# Altium schematic symbol library STM32MP135DAG7.SchLib: 1 symbol
Pins are listed as number, name and electrical type; pins without a type are passive.

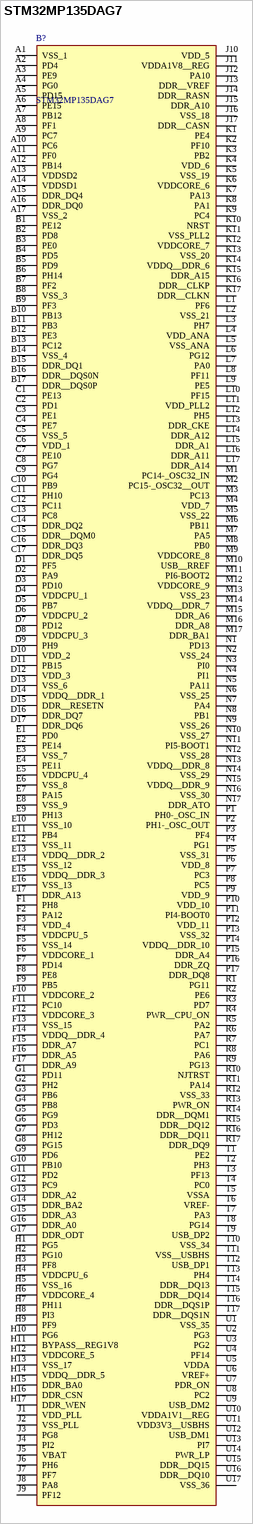
[diagram p0: symbol STM32MP135DAG7]

## STM32MP135DAG7
designator B?
32-bit Arm Cortex-A7 1GHz MPU for Graphics; Manufacturer_Name: STMicroelectronics; Geometry.Height: 1.41mm; Manufacturer_Part_Number: STM32MP135DAG7; Mouser Part Number: *; Mouser Price/Stock: *; Arrow Part Number: *; Arrow Price/Stock: *; Datasheet Link: https://www.st.com/resource/en/datasheet/stm32mp135a.pdf
footprint BGA289C50P17X17_900X900X141
pins: A1 VSS_1, A2 PD4, A3 PE9, A4 PG0, A5 PD15, A6 PE15, A7 PB12, A8 PF1, A9 PC7, A10 PC6, A11 PF0, A12 PB14, A13 VDDSD2, A14 VDDSD1, A15 DDR_DQ4, A16 DDR_DQ0, A17 VSS_2, B1 PE12, B2 PD8, B3 PE0, B4 PD5, B5 PD9, B6 PH14, B7 PF2, B8 VSS_3, B9 PF3, B10 PB13, B11 PB3, B12 PE3, B13 PC12, B14 VSS_4, B15 DDR_DQ1, B16 DDR__DQS0N, B17 DDR__DQS0P, C1 PE13, C2 PD1, C3 PE1, C4 PE7, C5 VSS_5, C6 VDD_1, C7 PE10, C8 PG7, C9 PG4, C10 PB9, C11 PH10, C12 PC11, C13 PC8, C14 DDR_DQ2, C15 DDR__DQM0, C16 DDR_DQ3, C17 DDR_DQ5, D1 PF5, D2 PA9, D3 PD10, D4 VDDCPU_1, D5 PB7, D6 VDDCPU_2, D7 PD12, D8 VDDCPU_3, D9 PH9, D10 VDD_2, D11 PB15, D12 VDD_3, D13 VSS_6, D14 VDDQ__DDR_1, D15 DDR__RESETN, D16 DDR_DQ7, D17 DDR_DQ6, E1 PD0, E2 PE14, E3 VSS_7, E4 PE11, E5 VDDCPU_4, E6 VSS_8, E7 PA15, E8 VSS_9, E9 PH13, E10 VSS_10, E11 PB4, E12 VSS_11, E13 VDDQ__DDR_2, E14 VSS_12, E15 VDDQ__DDR_3, E16 VSS_13, E17 DDR_A13, F1 PH8, F2 PA12, F3 VDD_4, F4 VDDCPU_5, F5 VSS_14, F6 VDDCORE_1, F7 PD14, F8 PE8, F9 PB5, F10 VDDCORE_2, F11 PC10, F12 VDDCORE_3, F13 VSS_15, F14 VDDQ__DDR_4, F15 DDR_A7, F16 DDR_A5, F17 DDR_A9, G1 PD11, G2 PH2, G3 PB6, G4 PB8, G5 PG9, G6 PD3, G7 PH12, G8 PG15, G9 PD6, G10 PB10, G11 PD2, G12 PC9, G13 DDR_A2, G14 DDR_BA2, G15 DDR_A3, G16 DDR_A0, G17 DDR_ODT, H1 PG5, H2 PG10, H3 PF8, H4 VDDCPU_6, H5 VSS_16, H6 VDDCORE_4, H7 PH11, H8 PI3, H9 PF9, H10 PG6, H11 BYPASS__REG1V8, H12 VDDCORE_5, H13 VSS_17, H14 VDDQ__DDR_5, H15 DDR_BA0, H16 DDR_CSN, H17 DDR_WEN, J1 VDD_PLL, J2 VSS_PLL, J3 PG8, J4 PI2, J5 VBAT, J6 PH6, J7 PF7, J8 PA8, J9 PF12, J10 VDD_5, J11 VDDA1V8__REG, J12 PA10, J13 DDR__VREF, J14 DDR__RASN, J15 DDR_A10, J16 VSS_18, J17 DDR__CASN, K1 PE4, K2 PF10, K3 PB2, K4 VDD_6, K5 VSS_19, K6 VDDCORE_6, K7 PA13, K8 PA1, K9 PC4, K10 NRST, K11 VSS_PLL2, K12 VDDCORE_7, K13 VSS_20, K14 VDDQ__DDR_6, K15 DDR_A15, K16 DDR__CLKP, K17 DDR__CLKN, L1 PF6, L2 VSS_21, L3 PH7, L4 VDD_ANA, L5 VSS_ANA, L6 PG12, L7 PA0, L8 PF11, L9 PE5, L10 PF15, L11 VDD_PLL2, L12 PH5, L13 DDR_CKE, L14 DDR_A12, L15 DDR_A1, L16 DDR_A11, L17 DDR_A14, M1 PC14-_OSC32_IN, M2 PC15-_OSC32__OUT, M3 PC13, M4 VDD_7, M5 VSS_22, M6 PB11, M7 PA5, M8 PB0, M9 VDDCORE_8, M10 USB__RREF, M11 PI6-BOOT2, M12 VDDCORE_9, M13 VSS_23, M14 VDDQ__DDR_7, M15 DDR_A6, M16 DDR_A8, M17 DDR_BA1, N1 PD13, N2 VSS_24, N3 PI0, N4 PI1, N5 PA11, N6 VSS_25, N7 PA4, N8 PB1, N9 VSS_26, N10 VSS_27, N11 PI5-BOOT1, N12 VSS_28, N13 VDDQ__DDR_8, N14 VSS_29, N15 VDDQ__DDR_9, N16 VSS_30, N17 DDR_ATO, P1 PH0-_OSC_IN, P2 PH1-_OSC_OUT, P3 PF4, P4 PG1, P5 VSS_31, P6 VDD_8, P7 PC3, P8 PC5, P9 VDD_9, P10 VDD_10, P11 PI4-BOOT0, P12 VDD_11, P13 VSS_32, P14 VDDQ__DDR_10, P15 DDR_A4, P16 DDR_ZQ, P17 DDR_DQ8, R1 PG11, R2 PE6, R3 PD7, R4 PWR__CPU_ON, R5 PA2, R6 PA7, R7 PC1, R8 PA6, R9 PG13, R10 NJTRST, R11 PA14, R12 VSS_33, R13 PWR_ON, R14 DDR__DQM1, R15 DDR__DQ12, R16 DDR__DQ11, R17 DDR_DQ9, T1 PE2, T2 PH3, T3 PF13, T4 PC0, T5 VSSA, T6 VREF-, T7 PA3, T8 PG14, T9 USB_DP2, T10 VSS_34, T11 VSS__USBHS, T12 USB_DP1, T13 PH4, T14 DDR__DQ13, T15 DDR__DQ14, T16 DDR__DQS1P, T17 DDR__DQS1N, U1 VSS_35, U2 PG3, U3 PG2, U4 PF14, U5 VDDA, U6 VREF+, U7 PDR_ON, U8 PC2, U9 USB_DM2, U10 VDDA1V1__REG, U11 VDD3V3__USBHS, U12 USB_DM1, U13 PI7, U14 PWR_LP, U15 DDR__DQ15, U16 DDR__DQ10, U17 VSS_36